# Altium footprint library RJ45_VERTICAL_CAT6.PcbLib: 1 footprints
Each footprint in its own frame and in the unit in brackets; x right, y up, seen from the top. Pads: shape width x height; smd on the part's side, far side on the other; paste and mask are expansions set on the pad; w line width, h text height; cw(c..) or ccw(c..) is an arc to the next point about the centre after c.
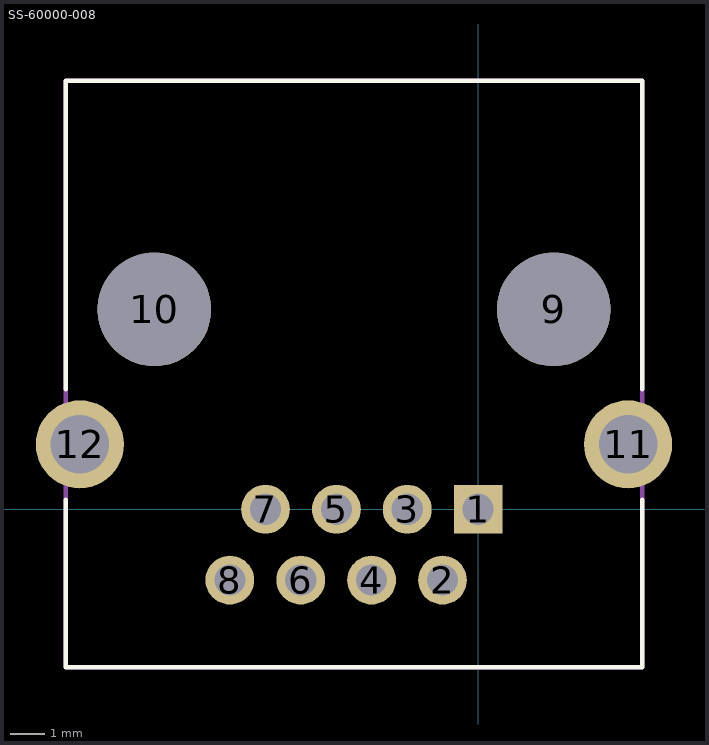
[diagram p0: the footprint, top view; thin cyan lines are the x and y axes]

## SS-60000-008 [mm]
pads (12):
  rect 1.398x1.398 hole 0.89: 1(0,0)
  round 1.398 hole 0.89: 2(-1.02,-2.03) 3(-2.03,0) 4(-3.05,-2.03) 5(-4.06,0) 6(-5.08,-2.03) 7(-6.09,0) 8(-7.11,-2.03)
  round 3.25 hole 3.25 unplated: 9(2.16,5.72) 10(-9.27,5.72)
  round 2.52 hole 1.68: 11(4.295,1.86) 12(-11.405,1.86)
Top Overlay:
  lines w0.127: -11.81,0.275 -11.81,-4.525 4.7,-4.525 4.7,0.275 ; -11.81,3.44 -11.81,12.27 4.7,12.27 4.7,3.44
Mechanical 13:
  lines w0.127: -11.81,-4.525 -11.81,12.27 4.7,12.27 4.7,-4.525 -11.81,-4.525
3D body "step_temp.STEP": height 16.82, standoff -3.76, extent -11.56,-4.43 4.442,12.308